# Altium schematic symbol library SCH.SchLib: 62 symbols
Pins are listed as number, name and electrical type; pins without a type are passive.

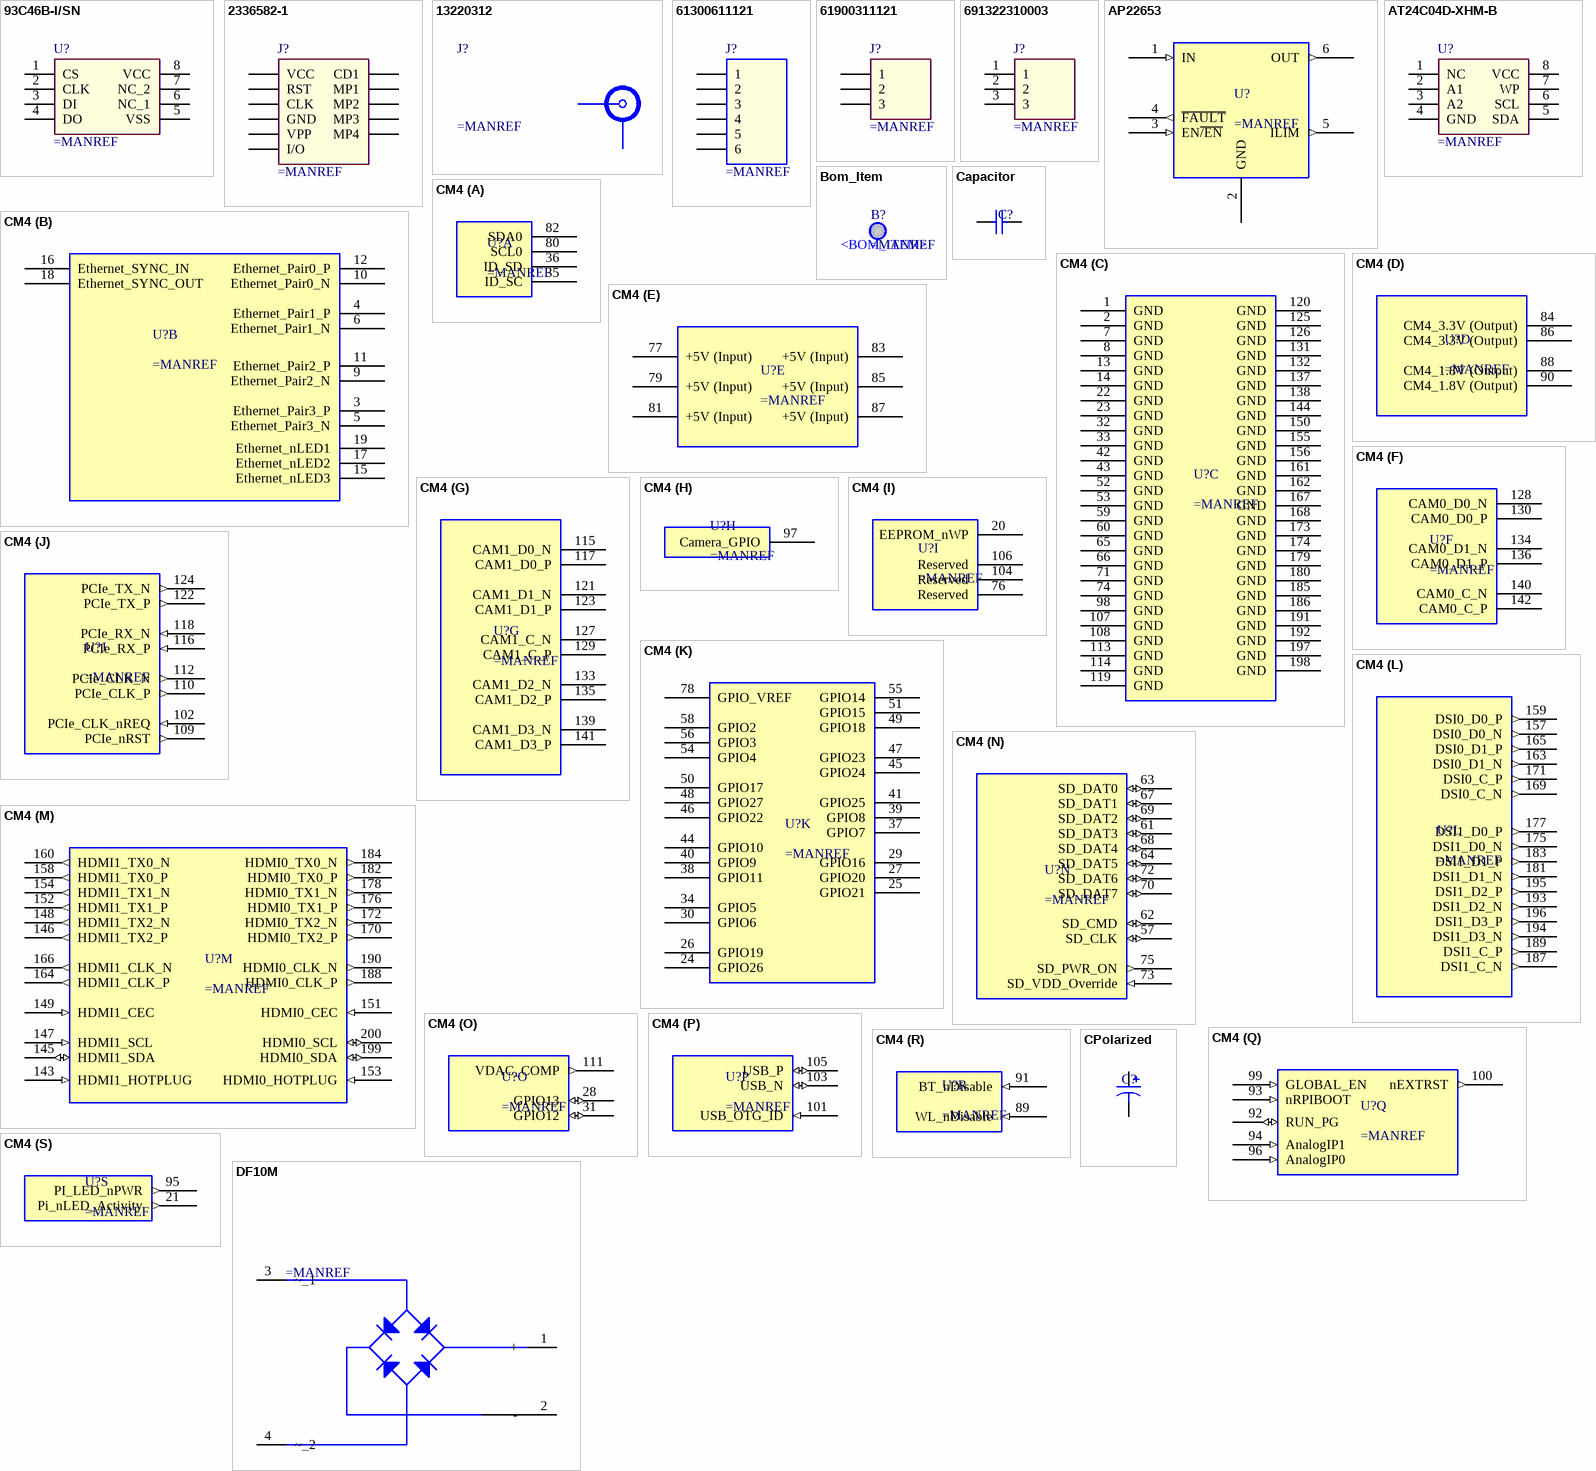
[diagram p0: symbols 93C46B-I/SN to DF10M]

## 93C46B-I/SN
designator U?
pins: 1 CS, 2 CLK, 3 DI, 4 DO, 5 VSS, 6 NC_1, 7 NC_2, 8 VCC

## 2336582-1
designator J?
4FF SIM, Push-Push Type, 7 Position, 7 Loaded Positions, Signal, -40  80 C [-40  185 F], SIM Card Connectors; Manufacturer_Name: TE Connectivity; Manufacturer_Part_Number: 2336582-1; Geometry.Height: 1.62mm; Mouser Part Number: *; Mouser Price/Stock: *; Datasheet Link: https://www.te.com/en/product-2336582-1.html
pins: C1 VCC, C2 RST, C3 CLK, C5 GND, C6 VPP, C7 I/O, CD1, MP1, MP2, MP3, MP4

## 13220312
designator J?
pins: 1,2,3,4 1, 5

## 61300611121
designator J?
pins: 1, 2, 3, 4, 5, 6

## 61900311121
designator J?
pins: 1, 2, 3

## 691322310003
designator J?
pins: 1, 2, 3

## AP22653
designator U?
pins: 1 IN (in), 2 GND (power), 3 EN~{/EN} (in), 4 ~{FAULT} (out), 5 ILIM (out), 6 OUT (out)

## AT24C04D-XHM-B
designator U?
pins: 1 NC, 2 A1, 3 A2, 4 GND, 5 SDA, 6 SCL, 7 WP, 8 VCC

## Bom_Item
designator B?  (mechanical)
text: <BOM_ITEM>

## Capacitor
designator C?
pins: 1, 2

## CM4
designator U?
part A pins: 35 ID_SC "( BCM2711 GPIO 1) GPIO Typically a 3.3V signal but can be a 1.8V signal by connecting", 36 ID_SD "( BCM2711 GPIO 0) GPIO Typically a 3.3V signal but can be a 1.8V signal by connecting", 80 SCL0 "IIC Clock pin ( BCM2711 GPIO45) Typically used for Camera and Display Internal 1.8K pull", 82 SDA0 "IIC Data pin ( BCM2711 GPIO44 ) Typically used for Camera and Display Internal 1.8K pull"
part B pins: 3 Ethernet_Pair3_P "Ethernet Pair 3 Positive ( connect to Transformer or MagJack)", 4 Ethernet_Pair1_P "Ethernet Pair 1 Positive ( connect to Transformer or MagJack)", 5 Ethernet_Pair3_N "Ethernet Pair 3 Negative ( connect to Transformer or MagJack)", 6 Ethernet_Pair1_N "Ethernet Pair 1 Negative ( connect to Transformer or MagJack)", 9 Ethernet_Pair2_N "Ethernet Pair 2 Negative ( connect to Transformer or MagJack)", 10 Ethernet_Pair0_N "Ethernet Pair 0 Negative ( connect to Transformer or MagJack)", 11 Ethernet_Pair2_P "Ethernet Pair 2 Positive ( connect to Transformer or MagJack)", 12 Ethernet_Pair0_P "Ethernet Pair 0 Positive ( connect to Transformer or MagJack)", 15 Ethernet_nLED3 "Low Active Ethernet Activity indicator ( 3.3V signal) Typically a Green LED is connected to", 16 Ethernet_SYNC_IN "IEEE1588 SYNC Input pin ( 1.8V signal : IOL = 8mA @ VOL< 0.4V )", 17 Ethernet_nLED2 "Low Active Ethernet speed indicator ( 3.3V signal) Typically a Yellow LED is connected to", 18 Ethernet_SYNC_OUT "IEEE1588 SYNC Output pin ( 1.8V signal : IOL = 8mA @ VOL< 0.4V )", 19 Ethernet_nLED1 "Low Active Ethernet speed indicator ( 3.3V signal) Typically a Yellow LED is connected to"
part C pins: 1 GND (power) "Ground (0V)", 2 GND (power) "Ground (0V)", 7 GND (power) "Ground (0V)", 8 GND (power) "Ground (0V)", 13 GND (power) "Ground (0V)", 14 GND (power) "Ground (0V)", 22 GND (power) "Ground (0V)", 23 GND (power) "Ground (0V)", 32 GND (power) "Ground (0V)", 33 GND (power) "Ground (0V)", 42 GND (power) "Ground (0V)", 43 GND (power) "Ground (0V)", 52 GND (power) "Ground (0V)", 53 GND (power) "Ground (0V)", 59 GND (power) "Ground (0V)", 60 GND (power) "Ground (0V)", 65 GND (power) "Ground (0V)", 66 GND (power) "Ground (0V)", 71 GND (power) "Ground (0V)", 74 GND (power) "Ground (0V)", 98 GND (power) "Ground (0V)", 107 GND (power) "Ground (0V)", 108 GND (power) "Ground (0V)", 113 GND (power) "Ground (0V)", 114 GND (power) "Ground (0V)", 119 GND (power) "Ground (0V)", 120 GND (power) "Ground (0V)", 125 GND (power) "Ground (0V)", 126 GND (power) "Ground (0V)", 131 GND (power) "Ground (0V)", 132 GND (power) "Ground (0V)", 137 GND (power) "Ground (0V)", 138 GND (power) "Ground (0V)", 144 GND (power) "Ground (0V)", 150 GND (power) "Ground (0V)", 155 GND (power) "Ground (0V)", 156 GND (power) "Ground (0V)", 161 GND (power) "Ground (0V)", 162 GND (power) "Ground (0V)", 167 GND (power) "Ground (0V)", 168 GND (power) "Ground (0V)", 173 GND (power) "Ground (0V)", 174 GND (power) "Ground (0V)", 179 GND (power) "Ground (0V)", 180 GND (power) "Ground (0V)", 185 GND (power) "Ground (0V)", 186 GND (power) "Ground (0V)", 191 GND (power) "Ground (0V)", 192 GND (power) "Ground (0V)", 197 GND (power) "Ground (0V)", 198 GND (power) "Ground (0V)"
part D pins: 84 CM4_3.3V (Output) (power) "3.3V +/-2.5% Power Output max 300mA per pin for a total of 600mA. This will be powered", 86 CM4_3.3V (Output) (power) "3.3V +/-2.5% Power Output max 300mA per pin for a total of 600mA. This will be powered", 88 CM4_1.8V (Output) (power) "1.8V +/-2.5% Power Output max 300mA per pin for a total of 600mA. This will be powered", 90 CM4_1.8V (Output) (power) "1.8V +/-2.5% Power Output max 300mA per pin for a total of 600mA. This will be powered"
part E pins: 77 +5V (Input) (power) "4.75V-5.25V Main power input", 79 +5V (Input) (power) "4.75V-5.25V Main power input", 81 +5V (Input) (power) "4.75V-5.25V Main power input", 83 +5V (Input) (power) "4.75V-5.25V Main power input", 85 +5V (Input) (power) "4.75V-5.25V Main power input", 87 +5V (Input) (power) "4.75V-5.25V Main power input"
part F pins: 128 CAM0_D0_N "Input Camera0 D0 Negative", 130 CAM0_D0_P "Input Camera0 D0 Positive", 134 CAM0_D1_N "Input Camera0 D1 Negative", 136 CAM0_D1_P "Input Camera0 D1 Positive", 140 CAM0_C_N "Input Camera0 Clock Negative", 142 CAM0_C_P "Input Camera0 Clock Positive"
part G pins: 115 CAM1_D0_N "Input Camera1 D0 Negative", 117 CAM1_D0_P "Input Camera1 D0 Positive", 121 CAM1_D1_N "Input Camera1 D1 Negative", 123 CAM1_D1_P "Input Camera1 D1 Positive", 127 CAM1_C_N "Input Camera1 Clock Negative", 129 CAM1_C_P "Input Camera1 Clock Positive", 133 CAM1_D2_N "Input Camera1 D2 Negative", 135 CAM1_D2_P "Input Camera1 D2 Positive", 139 CAM1_D3_N "Input Camera1 D3 Negative", 141 CAM1_D3_P "Input Camera1 D3 Positive"
part H pins: 97 Camera_GPIO "Typically used to Shutdown the camera to reduce power. Reassigning this pin to another"
part I pins: 20 EEPROM_nWP "Leaving floating NB internally pulled up to CM4_3.3V via 100K ( VIL <0.8V) but can be", 76 Reserved "Do not Connect anything to this pin.", 104 Reserved "Do not Connect anything to this pin", 106 Reserved "Do not Connect anything to this pin."
part J pins: 102 PCIe_CLK_nREQ (in) "Input ( 3.3V signal) PCIe Clock request pin (low to request PCI clock). Internal pulled up", 109 PCIe_nRST (out) "Output (+3.3V signal) PCIe Reset Low active", 110 PCIe_CLK_P (out) "PCIe Clock Out Positive (100MHz) NB AC coupling Capacitor Included on CM4", 112 PCIe_CLK_N (out) "PCIe Clock Out Negative (100MHz) NB AC coupling Capacitor Included on CM4", 116 PCIe_RX_P (in) "Input PCIe GEN 2 RX Positive NB External AC coupling Capacitor required", 118 PCIe_RX_N (in) "Input PCIe GEN 2 RX Negative NB External AC coupling Capacitor required", 122 PCIe_TX_P (out) "Output PCIe GEN 2 TX Positive NB AC coupling Capacitor Included on CM4", 124 PCIe_TX_N (out) "Output PCIe GEN 2 TX Positive NB AC coupling Capacitor Included on CM4"
part K pins: 24 GPIO26 "GPIO Typically a 3.3V signal but can be a 1.8V signal by connecting GPIO_Vref to 1.8V", 25 GPIO21 "GPIO Typically a 3.3V signal but can be a 1.8V signal by connecting GPIO_Vref to 1.8V", 26 GPIO19 "GPIO Typically a 3.3V signal but can be a 1.8V signal by connecting GPIO_Vref to 1.8V", 27 GPIO20 "GPIO Typically a 3.3V signal but can be a 1.8V signal by connecting GPIO_Vref to 1.8V", 29 GPIO16 "GPIO Typically a 3.3V signal but can be a 1.8V signal by connecting GPIO_Vref to 1.8V", 30 GPIO6 "GPIO Typically a 3.3V signal but can be a 1.8V signal by connecting GPIO_Vref to 1.8V", 34 GPIO5 "GPIO Typically a 3.3V signal but can be a 1.8V signal by connecting GPIO_Vref to 1.8V", 37 GPIO7 "GPIO Typically a 3.3V signal but can be a 1.8V signal by connecting GPIO_Vref to 1.8V", 38 GPIO11 "GPIO Typically a 3.3V signal but can be a 1.8V signal by connecting GPIO_Vref to 1.8V", 39 GPIO8 "GPIO Typically a 3.3V signal but can be a 1.8V signal by connecting GPIO_Vref to 1.8V", 40 GPIO9 "GPIO Typically a 3.3V signal but can be a 1.8V signal by connecting GPIO_Vref to 1.8V", 41 GPIO25 "GPIO Typically a 3.3V signal but can be a 1.8V signal by connecting GPIO_Vref to 1.8V", 44 GPIO10 "GPIO Typically a 3.3V signal but can be a 1.8V signal by connecting GPIO_Vref to 1.8V", 45 GPIO24 "GPIO Typically a 3.3V signal but can be a 1.8V signal by connecting GPIO_Vref to 1.8V", 46 GPIO22 "GPIO Typically a 3.3V signal but can be a 1.8V signal by connecting GPIO_Vref to 1.8V", 47 GPIO23 "GPIO Typically a 3.3V signal but can be a 1.8V signal by connecting GPIO_Vref to 1.8V", 48 GPIO27 "GPIO Typically a 3.3V signal but can be a 1.8V signal by connecting GPIO_Vref to 1.8V", 49 GPIO18 "GPIO Typically a 3.3V signal but can be a 1.8V signal by connecting GPIO_Vref to 1.8V", 50 GPIO17 "GPIO Typically a 3.3V signal but can be a 1.8V signal by connecting GPIO_Vref to 1.8V", 51 GPIO15 "GPIO Typically a 3.3V signal but can be a 1.8V signal by connecting GPIO_Vref to 1.8V", 54 GPIO4 "GPIO Typically a 3.3V signal but can be a 1.8V signal by connecting GPIO_Vref to 1.8V", 55 GPIO14 "GPIO Typically a 3.3V signal but can be a 1.8V signal by connecting GPIO_Vref to 1.8V", 56 GPIO3 "GPIO Typically a 3.3V signal but can be a 1.8V signal by connecting GPIO_Vref to 1.8V.", 58 GPIO2 "GPIO Typically a 3.3V signal but can be a 1.8V signal by connecting GPIO_Vref to 1.8V.", 78 GPIO_VREF "Must be connected to CM4_3.3V ( pins 84 and 86 ) for 3.3V GPIO or CM4_1.8V ( pins 88 and"
part L pins: 157 DSI0_D0_N (out) "Output Display0 D0 Negative", 159 DSI0_D0_P (out) "Output Display0 D0 Positive", 163 DSI0_D1_N (out) "Output Display0 D1 Negative", 165 DSI0_D1_P (out) "Output Display0 D1 Positive", 169 DSI0_C_N (out) "Output Display0 Clock Negative", 171 DSI0_C_P (out) "Output Display0 Clock Positive", 175 DSI1_D0_N (out) "Output Display1 D0 Negative", 177 DSI1_D0_P (out) "Output Display1 D0 Positive", 181 DSI1_D1_N (out) "Output Display1 D1 Negative", 183 DSI1_D1_P (out) "Output Display1 D1 Positive", 187 DSI1_C_N (out) "Output Display1 Clock Negative", 189 DSI1_C_P (out) "Output Display1 Clock Positive", 193 DSI1_D2_N (out) "Output Display1 D2 Negative", 194 DSI1_D3_N (out) "Output Display1 D3 Negative", 195 DSI1_D2_P (out) "Output Display1 D2 Positive", 196 DSI1_D3_P (out) "Output Display1 D3 Positive"
part M pins: 143 HDMI1_HOTPLUG (in) "Input HDMI1 Hotplug Internally pulled down with a 100K. 5V tolerant. (It can be connected", 145 HDMI1_SDA (io) "Bidir HDMI1 SDA Internally pulled up with a 1.8K. 5V tolerant. (It can be connected directly", 146 HDMI1_TX2_P (out) "Output HDMI1 TX2 Positive", 147 HDMI1_SCL (in) "Input HDMI1 SCL Internally pulled up with a 1.8K. 5V tolerant. (It can be connected directly", 148 HDMI1_TX2_N (out) "Output HDMI1 TX2 Negative", 149 HDMI1_CEC (in) "Input HDMI1 CEC Internally pulled up with a 27K. 5V tolerant. (It can be connected directly", 151 HDMI0_CEC (in) "Input HDMI0 CEC Internally pulled up with a 27K. 5V tolerant (It can be connected directly", 152 HDMI1_TX1_P (out) "Output HDMI1 TX1 Positive", 153 HDMI0_HOTPLUG (in) "Input HDMI0 Hotplug Internally pulled down 100K. 5V tolerant. (It can be connected directly", 154 HDMI1_TX1_N (out) "Output HDMI1 TX1 Negative", 158 HDMI1_TX0_P (out) "Output HDMI1 TX0 Positive", 160 HDMI1_TX0_N (out) "Output HDMI1 TX0 Negative", 164 HDMI1_CLK_P (out) "Output HDMI1 Clock Positive", 166 HDMI1_CLK_N (out) "Output HDMI1 Clock Negative", 170 HDMI0_TX2_P (out) "Output HDMI0 TX2 Positive", 172 HDMI0_TX2_N (out) "Output HDMI0 TX2 Negative", 176 HDMI0_TX1_P (out) "Output HDMI0 TX1 Positive", 178 HDMI0_TX1_N (out) "Output HDMI0 TX1 Negative", 182 HDMI0_TX0_P (out) "Output HDMI0 TX0 Positive", 184 HDMI0_TX0_N (out) "Output HDMI0 TX0 Negative", 188 HDMI0_CLK_P (out) "Output HDMI0 Clock Positive", 190 HDMI0_CLK_N (out) "Output HDMI0 Clock Negative", 199 HDMI0_SDA (io) "Bidir HDMI0 SDA Internally pulled up with a 1.8K. 5V tolerant. (It can be connected directly", 200 HDMI0_SCL (io) "Bidir HDMI0 SCL Internally pulled up with a 1.8K. 5V tolerant. (It can be connected directly"
part N pins: 57 SD_CLK (io) "SDCARD Clock signal (only available on CM4Lite)", 61 SD_DAT3 (io) "SDCARD/eMMC Data3 signal (only available on CM4Lite)", 62 SD_CMD (io) "SDCARD/eMMC Command signal (only available on CM4Lite)", 63 SD_DAT0 (io) "SDCARD/eMMC Data0 signal (only available on CM4Lite)", 64 SD_DAT5 (io) "SDCARD/eMMC Data5 signal (only available on CM4Lite)", 67 SD_DAT1 (io) "SDCARD/eMMC Data1 signal (only available on CM4Lite)", 68 SD_DAT4 (io) "SDCARD/eMMC Data4 signal (only available on CM4Lite)", 69 SD_DAT2 (io) "SDCARD/eMMC Data2 signal (only available on CM4Lite)", 70 SD_DAT7 (io) "SDCARD/eMMC Data7 signal (only available on CM4Lite)", 72 SD_DAT6 (io) "SDCARD/eMMC Data6 signal (only available on CM4Lite)", 73 SD_VDD_Override (in) "Force SDCARD/eMMC interface to 1.8V signalling if set to 3.3V, otherwise leave", 75 SD_PWR_ON (out) "Output to Power switch for the SDCARD. The CM4 sets this pin High (3.3V) to signal that"
part O pins: 28 GPIO13 (io) "GPIO Typically a 3.3V signal but can be a 1.8V signal by connecting GPIO_Vref to 1.8V", 31 GPIO12 (io) "GPIO Typically a 3.3V signal but can be a 1.8V signal by connecting GPIO_Vref to 1.8V", 111 VDAC_COMP (out) "Video DAC output (TV OUT)"
part P pins: 101 USB_OTG_ID (in) "Input ( 3.3V signal ) USB OTG Pin. Internal pulled up. When grounded the CM4 becomes a", 103 USB_N (io) "USB D", 105 USB_P (io) "USB D+"
part Q pins: 92 RUN_PG (io) "Bidirectional pin. Can be driven low ( via a 220R resistor) to Reset the CM4 CPU. As an", 93 nRPIBOOT (in) "A low on this pin forces booting from an RPI server ( e.g. PC or a Raspberry Pi)  if not used", 94 AnalogIP1 (in) "Analogue input of the MXL7704. Typically connected to CC pin of Type C power connector", 96 AnalogIP0 (in) "Analogue input of the MXL7704. Typically connected to CC pin of Type C power connector", 99 GLOBAL_EN (in) "Input. Drive low to power off CM4. Internally pulled up with a 100K to +5V", 100 nEXTRST (out) "Output Driven low during reset Driven high (CM4_3.3V) once CM4 CPU has started to boot"
part R pins: 89 WL_nDisable (in) "Can be left floating if driven low the wireless interface will be disabled. Internal pulled up via", 91 BT_nDisable (in) "Can be left floating if driven low the Bluetooth interface will be disabled. Internal pulled up"
part S pins: 21 Pi_nLED_Activity (out) "Low Active Pi Activity LED. 20mA Max 5V tolerant ( VOL<0.4V). ( this is the signal that drives", 95 PI_LED_nPWR (out) "Low active Output to drive Power On LED. This signal needs to be buffered"

## CPolarized
designator C?
pins: 1, 2
1 alternate drawing of the same symbol

## DF10M
designator ?
pins: 1 +, 2 -, 3 ~_1, 4 ~_2

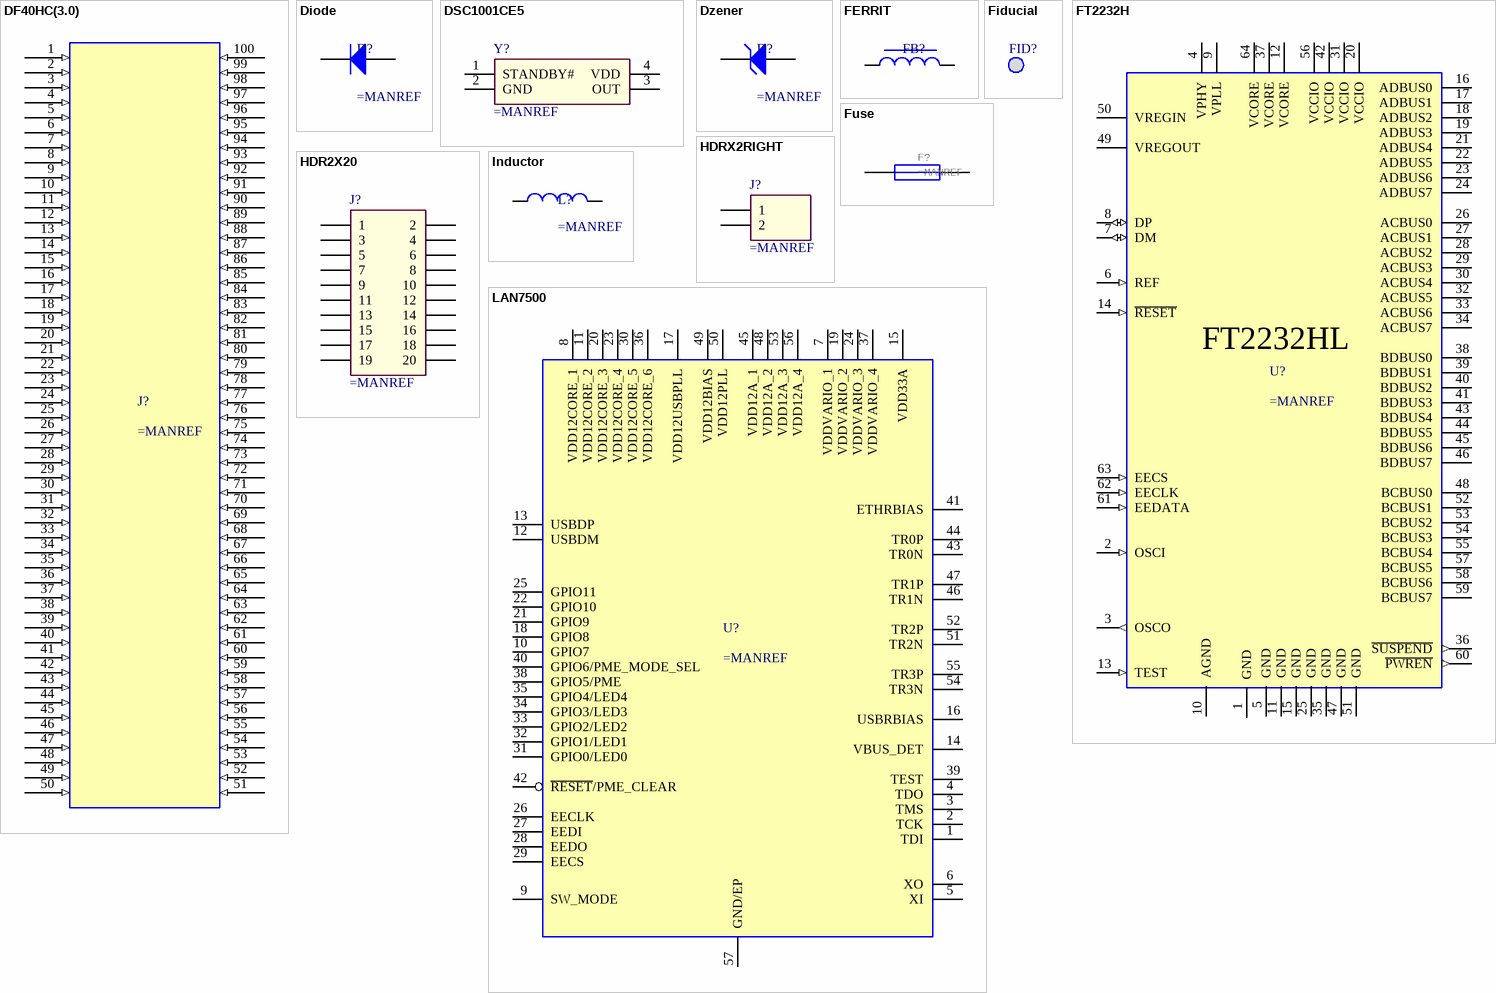
[diagram p1: symbols DF40HC(3.0) to LAN7500]

## DF40HC(3.0)
designator J?
pins: 1 (in), 2 (in), 3 (in), 4 (in), 5 (in), 6 (in), 7 (in), 8 (in), 9 (in), 10 (in), 11 (in), 12 (in), 13 (in), 14 (in), 15 (in), 16 (in), 17 (in), 18 (in), 19 (in), 20 (in), 21 (in), 22 (in), 23 (in), 24 (in), 25 (in), 26 (in), 27 (in), 28 (in), 29 (in), 30 (in), 31 (in), 32 (in), 33 (in), 34 (in), 35 (in), 36 (in), 37 (in), 38 (in), 39 (in), 40 (in), 41 (in), 42 (in), 43 (in), 44 (in), 45 (in), 46 (in), 47 (in), 48 (in), 49 (in), 50 (in), 51 (in), 52 (in), 53 (in), 54 (in), 55 (in), 56 (in), 57 (in), 58 (in), 59 (in), 60 (in), 61 (in), 62 (in), 63 (in), 64 (in), 65 (in), 66 (in), 67 (in), 68 (in), 69 (in), 70 (in), 71 (in), 72 (in), 73 (in), 74 (in), 75 (in), 76 (in), 77 (in), 78 (in), 79 (in), 80 (in), 81 (in), 82 (in), 83 (in), 84 (in), 85 (in), 86 (in), 87 (in), 88 (in), 89 (in), 90 (in), 91 (in), 92 (in), 93 (in), 94 (in), 95 (in), 96 (in), 97 (in), 98 (in), 99 (in), 100 (in)

## Diode
designator D?
pins: 1 A, 2 K

## DSC1001CE5
designator Y?
footprint DSC6183CI2A032K768
pins: 1 STANDBY#, 2 GND, 3 OUT, 4 VDD

## Dzener
designator D?
pins: 1 A, 3 K

## FERRIT
designator FB?
pins: 1, 2

## Fiducial
designator FID?

## FT2232H
designator U?
pins: 1 GND (power), 2 OSCI (in), 3 OSCO (out), 4 VPHY (power), 5 GND (power), 6 REF (in), 7 DM (io), 8 DP (io), 9 VPLL (power), 10 AGND (power), 11 GND (power), 12 VCORE (power), 13 TEST (in), 14 ~{RESET} (in), 15 GND (power), 16 ADBUS0, 17 ADBUS1, 18 ADBUS2, 19 ADBUS3, 20 VCCIO (power), 21 ADBUS4, 22 ADBUS5, 23 ADBUS6, 24 ADBUS7, 25 GND (power), 26 ACBUS0, 27 ACBUS1, 28 ACBUS2, 29 ACBUS3, 30 ACBUS4, 31 VCCIO (power), 32 ACBUS5, 33 ACBUS6, 34 ACBUS7, 35 GND (power), 36 ~{SUSPEND} (out), 37 VCORE (power), 38 BDBUS0, 39 BDBUS1, 40 BDBUS2, 41 BDBUS3, 42 VCCIO (power), 43 BDBUS4, 44 BDBUS5, 45 BDBUS6, 46 BDBUS7, 47 GND (power), 48 BCBUS0, 49 VREGOUT (power), 50 VREGIN (power), 51 GND (power), 52 BCBUS1, 53 BCBUS2, 54 BCBUS3, 55 BCBUS4, 56 VCCIO (power), 57 BCBUS5, 58 BCBUS6, 59 BCBUS7, 60 ~{PWREN} (out), 61 EEDATA (in), 62 EECLK (in), 63 EECS (in), 64 VCORE (power)
text: FT2232HL

## Fuse
designator F?
pins: 1 (power), 2 (power)

## HDR2X20
designator J?
pins: 1, 2, 3, 4, 5, 6, 7, 8, 9, 10, 11, 12, 13, 14, 15, 16, 17, 18, 19, 20

## HDRX2RIGHT
designator J?
pins: 1, 2

## Inductor
designator L?
pins: 1, 2

## LAN7500
designator U?
pins: 1 TDI, 2 TCK, 3 TMS, 4 TDO, 5 XI, 6 XO, 7 VDDVARIO_1, 8 VDD12CORE_1, 9 SW_MODE, 10 GPIO7, 11 VDD12CORE_2, 12 USBDM, 13 USBDP, 14 VBUS_DET, 15 VDD33A, 16 USBRBIAS, 17 VDD12USBPLL, 18 GPIO8, 19 VDDVARIO_2, 20 VDD12CORE_3, 21 GPIO9, 22 GPIO10, 23 VDD12CORE_4, 24 VDDVARIO_3, 25 GPIO11, 26 EECLK, 27 EEDI, 28 EEDO, 29 EECS, 30 VDD12CORE_5, 31 GPIO0/LED0, 32 GPIO1/LED1, 33 GPIO2/LED2, 34 GPIO3/LED3, 35 GPIO4/LED4, 36 VDD12CORE_6, 37 VDDVARIO_4, 38 GPIO5/PME, 39 TEST, 40 GPIO6/PME_MODE_SEL, 41 ETHRBIAS, 42 ~{RESET}/PME_CLEAR, 43 TR0N, 44 TR0P, 45 VDD12A_1, 46 TR1N, 47 TR1P, 48 VDD12A_2, 49 VDD12BIAS, 50 VDD12PLL, 51 TR2N, 52 TR2P, 53 VDD12A_3, 54 TR3N, 55 TR3P, 56 VDD12A_4, 57 GND/EP

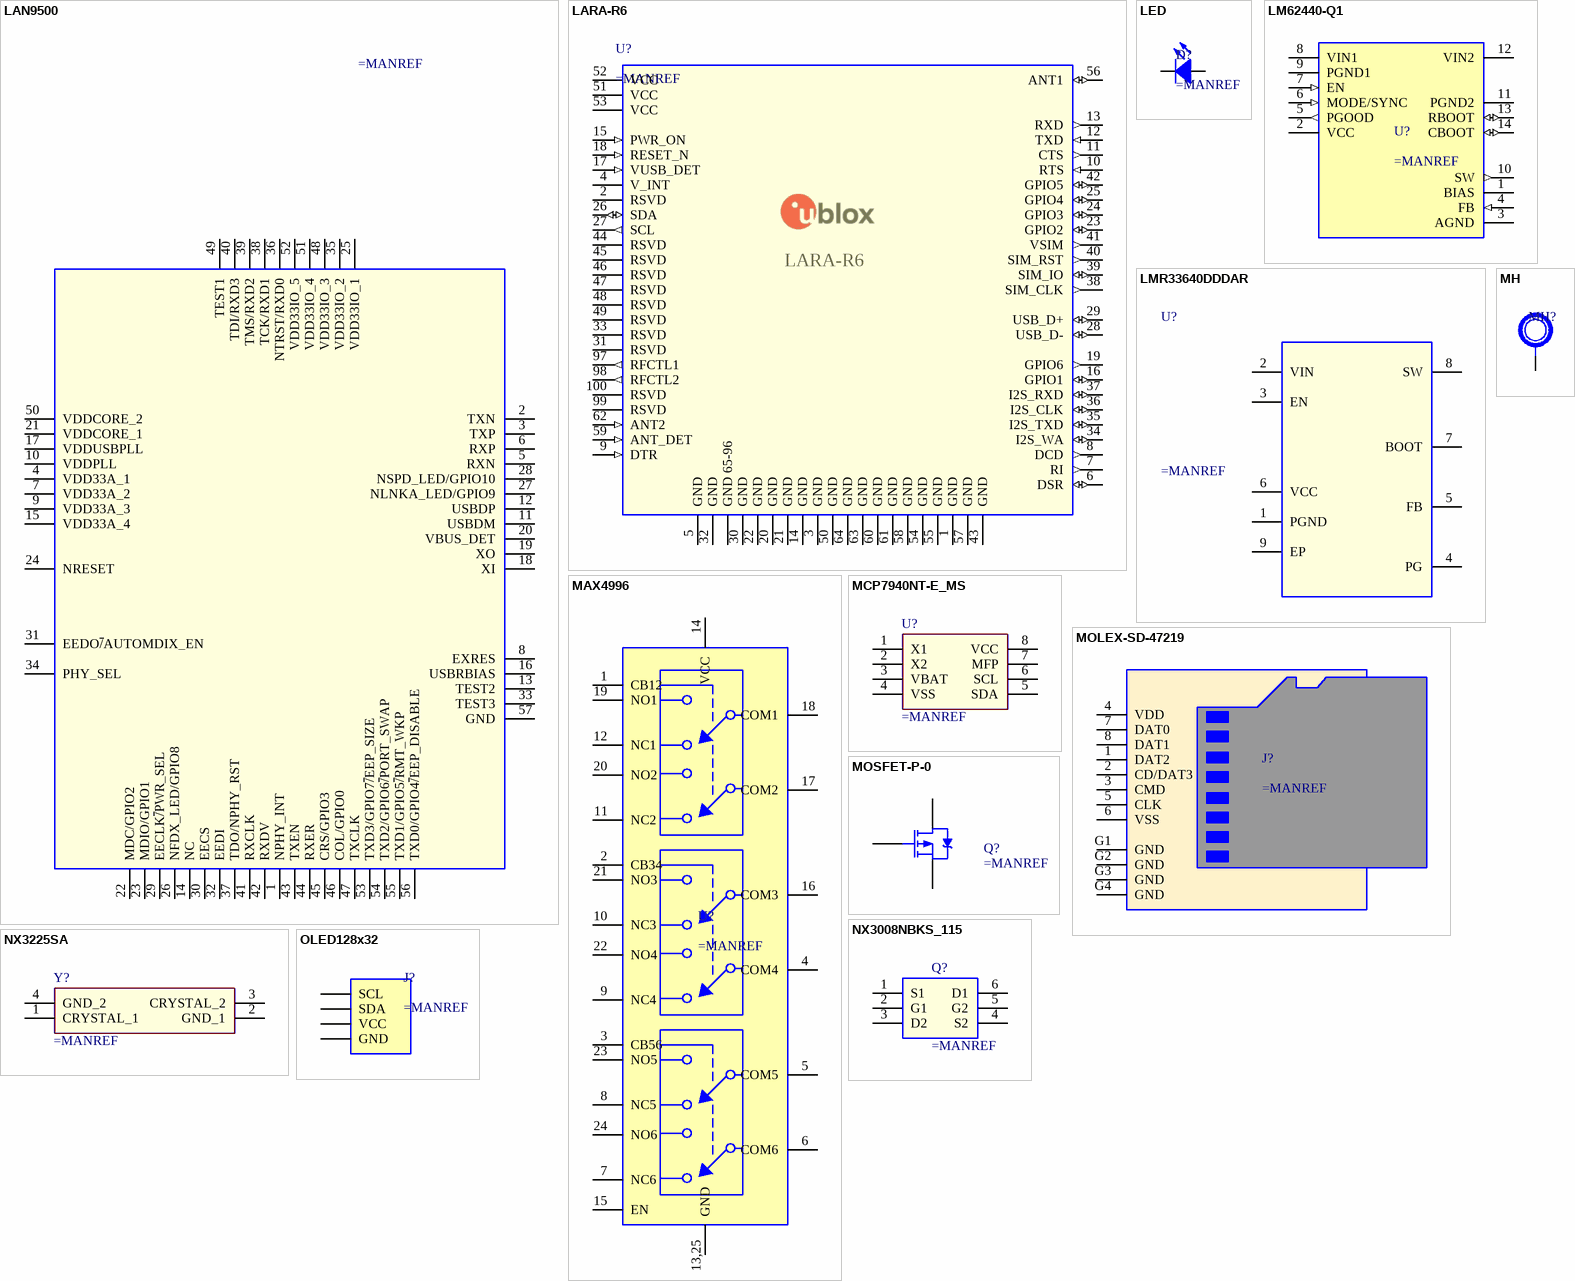
[diagram p2: symbols LAN9500 to OLED128x32]

## LAN9500
designator ?
pins: 1 NPHY_INT, 2 TXN, 3 TXP, 4 VDD33A_1, 5 RXN, 6 RXP, 7 VDD33A_2, 8 EXRES, 9 VDD33A_3, 10 VDDPLL, 11 USBDM, 12 USBDP, 13 TEST2, 14 NC, 15 VDD33A_4, 16 USBRBIAS, 17 VDDUSBPLL, 18 XI, 19 XO, 20 VBUS_DET, 21 VDDCORE_1, 22 MDC/GPIO2, 23 MDIO/GPIO1, 24 NRESET, 25 VDD33IO_1, 26 NFDX_LED/GPIO8, 27 NLNKA_LED/GPIO9, 28 NSPD_LED/GPIO10, 29 EECLK~{/}PWR_SEL, 30 EECS, 31 EEDO~{/}AUTOMDIX_EN, 32 EEDI, 33 TEST3, 34 PHY_SEL, 35 VDD33IO_2, 36 NTRST/RXD0, 37 TDO/NPHY_RST, 38 TCK/RXD1, 39 TMS/RXD2, 40 TDI/RXD3, 41 RXCLK, 42 RXDV, 43 TXEN, 44 RXER, 45 CRS/GPIO3, 46 COL/GPIO0, 47 TXCLK, 48 VDD33IO_3, 49 TEST1, 50 VDDCORE_2, 51 VDD33IO_4, 52 VDD33IO_5, 53 TXD3/GPIO7~{/}EEP_SIZE, 54 TXD2/GPIO6~{/}PORT_SWAP, 55 TXD1/GPIO5~{/}RMT_WKP, 56 TXD0/GPIO4~{/}EEP_DISABLE, 57 GND

## LARA-R6
designator U?
pins: 1 GND (power), 2 RSVD, 3 GND (power), 4 V_INT (power), 5 GND (power), 6 DSR (io), 7 RI (out), 8 DCD (out), 9 DTR (in), 10 RTS (in), 11 CTS (out), 12 TXD (in), 13 RXD (out), 14 GND (power), 15 PWR_ON (in), 16 GPIO1 (io), 17 VUSB_DET (in), 18 RESET_N (in), 19 GPIO6 (out), 20 GND (power), 21 GND (power), 22 GND (power), 23 GPIO2 (io), 24 GPIO3 (io), 25 GPIO4 (io), 26 SDA (io), 27 SCL (out), 28 USB_D- (io), 29 USB_D+ (io), 30 GND (power), 31 RSVD, 32 GND (power), 33 RSVD, 34 I2S_WA (io), 35 I2S_TXD (io), 36 I2S_CLK (io), 37 I2S_RXD (io), 38 SIM_CLK (out), 39 SIM_IO (io), 40 SIM_RST (out), 41 VSIM (out), 42 GPIO5 (io), 43 GND (power), 44 RSVD, 45 RSVD, 46 RSVD, 47 RSVD, 48 RSVD, 49 RSVD, 50 GND (power), 51 VCC (power), 52 VCC (power), 53 VCC (power), 54 GND (power), 55 GND (power), 56 ANT1 (io), 57 GND (power), 58 GND (power), 59 ANT_DET (in), 60 GND (power), 61 GND (power), 62 ANT2 (in), 63 GND (power), 64 GND (power), 65 GND 65-96 (power), 97 RFCTL1 (out), 98 RFCTL2 (out), 99 RSVD, 100 RSVD

## LED
designator D?
pins: 1 K, 2 A

## LM62440-Q1
designator U?
pins: 1 BIAS (power), 2 VCC (power), 3 AGND (power), 4 FB (in), 5 PGOOD  (out), 6 MODE/SYNC (in), 7 EN (in), 8 VIN1 (power), 9 PGND1 (power), 10 SW (out), 11 PGND2 (power), 12 VIN2 (power), 13 RBOOT (io), 14 CBOOT (io)

## LMR33640DDDAR
designator U?
pins: 1 PGND, 2 VIN, 3 EN, 4 PG, 5 FB, 6 VCC, 7 BOOT, 8 SW, 9 EP

## MAX4996
designator U?
pins: 1 CB12, 2 CB34, 3 CB56, 4 COM4, 5 COM5, 6 COM6, 7 NC6, 8 NC5, 9 NC4, 10 NC3, 11 NC2, 12 NC1, 13,25 GND, 14 VCC, 15 EN, 16 COM3, 17 COM2, 18 COM1, 19 NO1, 20 NO2, 21 NO3, 22 NO4, 23 NO5, 24 NO6

## MCP7940NT-E_MS
designator U?
Real Time Clock I2C GP RTCC 64B SRAM, EXT
pins: 1 X1, 2 X2, 3 VBAT, 4 VSS, 5 SDA, 6 SCL, 7 MFP, 8 VCC

## MH
designator MH?
pins: MH

## MOLEX-SD-47219
designator J?
pins: 1 DAT2, 2 CD/DAT3, 3 CMD, 4 VDD, 5 CLK, 6 VSS, 7 DAT0, 8 DAT1, G1 GND, G2 GND, G3 GND, G4 GND

## MOSFET-P-0
designator Q?
pins: 1,2,3 S, 4 G, 5,6,7,8,9 D

## NX3008NBKS_115
designator Q?
pins: 1 S1, 2 G1, 3 D2, 4 S2, 5 G2, 6 D1

## NX3225SA
designator Y?
pins: 1 CRYSTAL_1, 2 GND_1, 3 CRYSTAL_2, 4 GND_2

## OLED128x32
designator J?
pins: 1 GND, 2 VCC, 3 SDA, 4 SCL

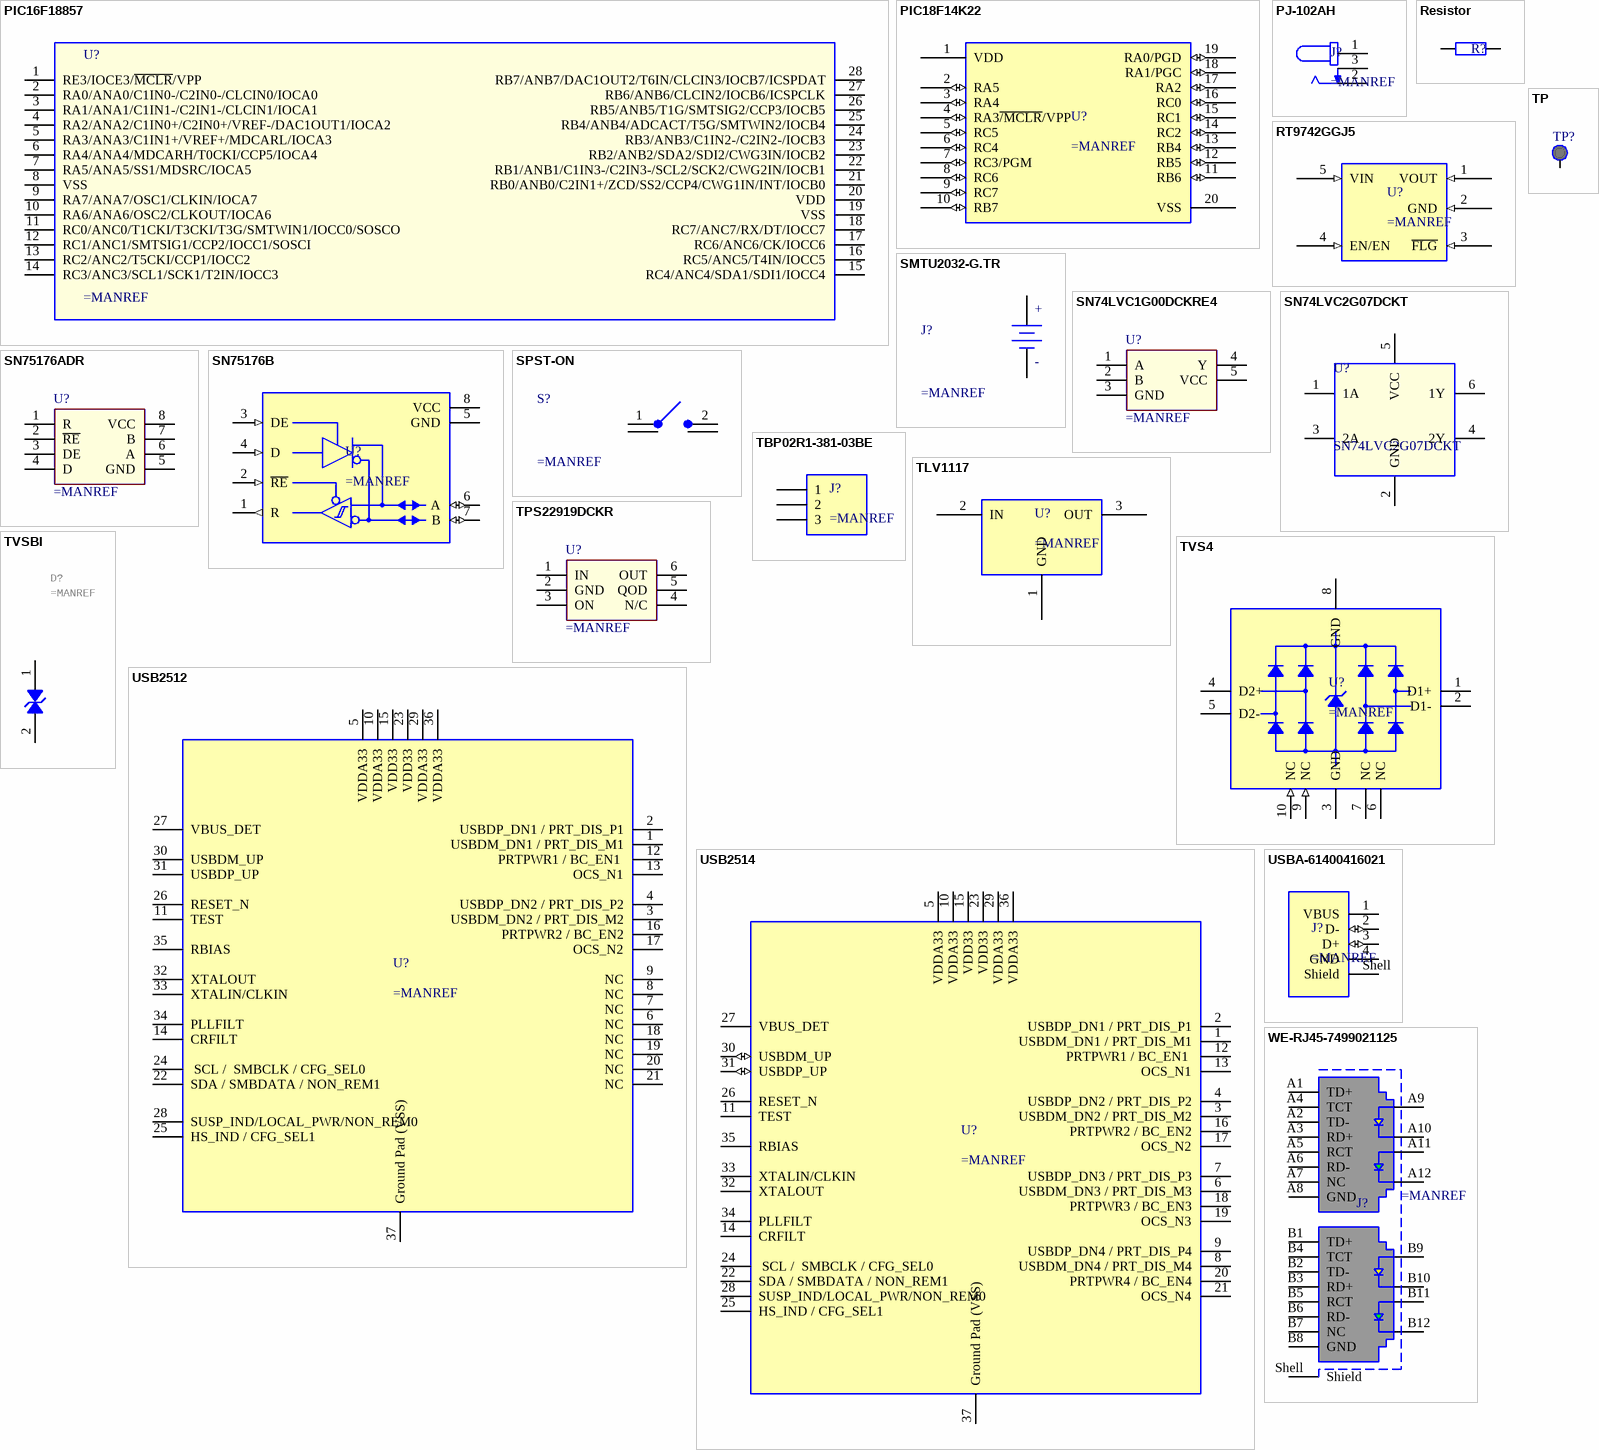
[diagram p3: symbols PIC16F18857 to WE-RJ45-7499021125]

## PIC16F18857
designator U?
pins: 1 RE3/IOCE3/~{MCLR}/VPP, 2 RA0/ANA0/C1IN0-/C2IN0-/CLCIN0/IOCA0, 3 RA1/ANA1/C1IN1-/C2IN1-/CLCIN1/IOCA1, 4 RA2/ANA2/C1IN0+/C2IN0+/VREF-/DAC1OUT1/IOCA2, 5 RA3/ANA3/C1IN1+/VREF+/MDCARL/IOCA3, 6 RA4/ANA4/MDCARH/T0CKI/CCP5/IOCA4, 7 RA5/ANA5/SS1/MDSRC/IOCA5, 8 VSS, 9 RA7/ANA7/OSC1/CLKIN/IOCA7, 10 RA6/ANA6/OSC2/CLKOUT/IOCA6, 11 RC0/ANC0/T1CKI/T3CKI/T3G/SMTWIN1/IOCC0/SOSCO, 12 RC1/ANC1/SMTSIG1/CCP2/IOCC1/SOSCI, 13 RC2/ANC2/T5CKI/CCP1/IOCC2, 14 RC3/ANC3/SCL1/SCK1/T2IN/IOCC3, 15 RC4/ANC4/SDA1/SDI1/IOCC4, 16 RC5/ANC5/T4IN/IOCC5, 17 RC6/ANC6/CK/IOCC6, 18 RC7/ANC7/RX/DT/IOCC7, 19 VSS, 20 VDD, 21 RB0/ANB0/C2IN1+/ZCD/SS2/CCP4/CWG1IN/INT/IOCB0, 22 RB1/ANB1/C1IN3-/C2IN3-/SCL2/SCK2/CWG2IN/IOCB1, 23 RB2/ANB2/SDA2/SDI2/CWG3IN/IOCB2, 24 RB3/ANB3/C1IN2-/C2IN2-/IOCB3, 25 RB4/ANB4/ADCACT/T5G/SMTWIN2/IOCB4, 26 RB5/ANB5/T1G/SMTSIG2/CCP3/IOCB5, 27 RB6/ANB6/CLCIN2/IOCB6/ICSPCLK, 28 RB7/ANB7/DAC1OUT2/T6IN/CLCIN3/IOCB7/ICSPDAT

## PIC18F14K22
designator U?
pins: 1 VDD (power), 2 RA5 (io), 3 RA4 (io), 4 RA3~{/MCLR}/VPP (io), 5 RC5 (io), 6 RC4 (io), 7 RC3/PGM (io), 8 RC6 (io), 9 RC7 (io), 10 RB7 (io), 11 RB6 (io), 12 RB5 (io), 13 RB4 (io), 14 RC2 (io), 15 RC1 (io), 16 RC0 (io), 17 RA2 (io), 18 RA1/PGC (io), 19 RA0/PGD (io), 20 VSS (power)

## PJ-102AH
designator J?
pins: 1, 2, 3

## Resistor
designator R?
pins: 1, 2

## RT9742GGJ5
designator U?
pins: 1 VOUT (in), 2 GND (in), 3 ~{FLG} (in), 4 EN/EN (in), 5 VIN (in)

## SMTU2032-G.TR
designator J?
pins: 1 +, 2 -

## SN74LVC1G00DCKRE4
designator U?
pins: 1 A, 2 B, 3 GND, 4 Y, 5 VCC

## SN74LVC2G07DCKT
designator U?
Dual Buffer/Driver with Open-Drain Output; Manufacturer_Name: Texas Instruments; Geometry.Height: 1.1mm; Mouser Part Number: 595-SN74LVC2G07DCKT; Mouser Price/Stock: https://www.mouser.co.uk/ProductDetail/Texas-Instruments/SN74LVC2G07DCKT?qs=pajgIaoyDUh%252B8BjKWdvxSw%3D%3D; Manufacturer_Part_Number: SN74LVC2G07DCKT; Datasheet Link: http://www.ti.com/lit/gpn/SN74LVC2G07
pins: 1 1A, 2 GND, 3 2A, 4 2Y, 5 VCC, 6 1Y

## SN75176ADR
designator U?
pins: 1 R, 2 ~{RE}, 3 DE, 4 D, 5 GND, 6 A, 7 B, 8 VCC

## SN75176B
designator U?
pins: 1 R (out), 2 ~{RE} (in), 3 DE (in), 4 D (in), 5 GND (power), 6 A (io), 7 B (io), 8 VCC (power)

## SPST-ON
designator S?
pins: 1 COM, 2 NO, MH1, MH2

## TBP02R1-381-03BE
designator J?
pins: 1, 2, 3

## TLV1117
designator U?
pins: 1 GND, 2 IN, 3 OUT

## TP
designator TP?, comment Test Point  (value not drawn)  (no BOM)
pins: 1

## TPS22919DCKR
designator U?
pins: 1 IN, 2 GND, 3 ON, 4 N/C, 5 QOD, 6 OUT

## TVS4
designator U?
pins: 1 D1+, 2 D1-, 3 GND, 4 D2+, 5 D2-, 6 NC, 7 NC, 8 GND, 9 NC (in), 10 NC (in)

## TVSBI
designator D?
pins: 1, 2

## USB2512
designator U?
pins: 1 USBDM_DN1 / PRT_DIS_M1, 2 USBDP_DN1 / PRT_DIS_P1, 3 USBDM_DN2 / PRT_DIS_M2, 4 USBDP_DN2 / PRT_DIS_P2, 5 VDDA33, 6 NC, 7 NC, 8 NC, 9 NC, 10 VDDA33, 11 TEST, 12 PRTPWR1 / BC_EN1 , 13 OCS_N1, 14 CRFILT, 15 VDD33, 16 PRTPWR2 / BC_EN2, 17 OCS_N2, 18 NC, 19 NC, 20 NC, 21 NC, 22 SDA / SMBDATA / NON_REM1, 23 VDD33, 24  SCL /  SMBCLK / CFG_SEL0, 25 HS_IND / CFG_SEL1, 26 RESET_N, 27 VBUS_DET, 28 SUSP_IND/LOCAL_PWR/NON_REM0, 29 VDDA33, 30 USBDM_UP, 31 USBDP_UP, 32 XTALOUT, 33 XTALIN/CLKIN, 34 PLLFILT, 35 RBIAS, 36 VDDA33, 37 Ground Pad (VSS)

## USB2514
designator U?
pins: 1 USBDM_DN1 / PRT_DIS_M1, 2 USBDP_DN1 / PRT_DIS_P1, 3 USBDM_DN2 / PRT_DIS_M2, 4 USBDP_DN2 / PRT_DIS_P2, 5 VDDA33, 6 USBDM_DN3 / PRT_DIS_M3, 7 USBDP_DN3 / PRT_DIS_P3, 8 USBDM_DN4 / PRT_DIS_M4, 9 USBDP_DN4 / PRT_DIS_P4, 10 VDDA33, 11 TEST, 12 PRTPWR1 / BC_EN1 , 13 OCS_N1, 14 CRFILT, 15 VDD33, 16 PRTPWR2 / BC_EN2, 17 OCS_N2, 18 PRTPWR3 / BC_EN3, 19 OCS_N3, 20 PRTPWR4 / BC_EN4, 21 OCS_N4, 22 SDA / SMBDATA / NON_REM1, 23 VDD33, 24  SCL /  SMBCLK / CFG_SEL0, 25 HS_IND / CFG_SEL1, 26 RESET_N, 27 VBUS_DET, 28 SUSP_IND/LOCAL_PWR/NON_REM0, 29 VDDA33, 30 USBDM_UP (io), 31 USBDP_UP (io), 32 XTALOUT, 33 XTALIN/CLKIN, 34 PLLFILT, 35 RBIAS, 36 VDDA33, 37 Ground Pad (VSS)

## USBA-61400416021
designator J?
pins: 1 VBUS, 2 D- (io), 3 D+ (io), 4 GND, Shell Shield

## WE-RJ45-7499021125
designator J?
pins: A1 TD+, A2 TD-, A3 RD+, A4 TCT, A5 RCT, A6 RD-, A7 NC, A8 GND, A9, A10, A11, A12, B1 TD+, B2 TD-, B3 RD+, B4 TCT, B5 RCT, B6 RD-, B7 NC, B8 GND, B9, B10, B11, B12, Shell Shield

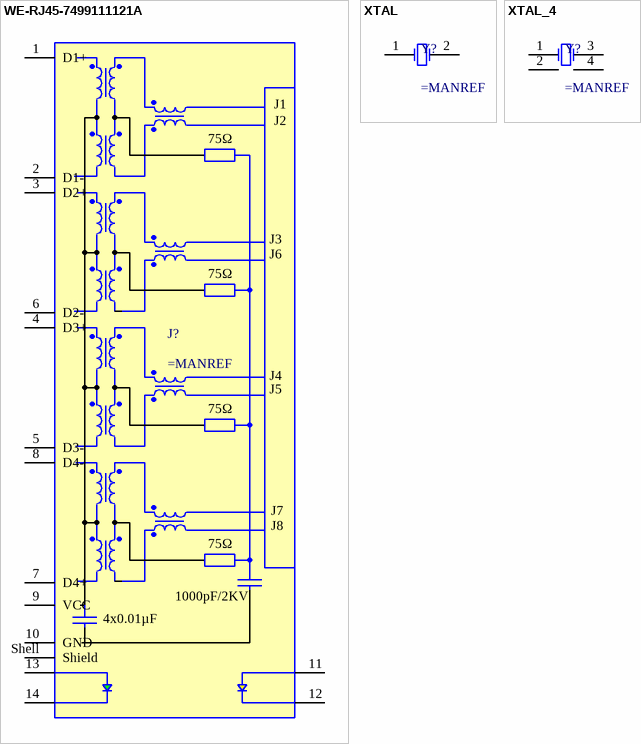
[diagram p4: symbols WE-RJ45-7499111121A to XTAL_4]

## WE-RJ45-7499111121A
designator J?
pins: 1 D1+, 2 D1-, 3 D2+, 4 D3+, 5 D3-, 6 D2-, 7 D4+, 8 D4-, 9 VCC, 10 GND, 11, 12, 13, 14, Shell Shield
text: J1; J2; 75Ω; J3; J6; J4; J5; J7; J8; 1000pF/2KV; 4x0.01µF

## XTAL
designator Y?
pins: 1 OSC1, 2 OSC2

## XTAL_4
designator Y?
pins: 1 OSC1, 2 Case1, 3, 4 Case2